# Altium footprint library VL53L1.PcbLib: 3 footprints
Each footprint in its own frame and in the unit in brackets; x right, y up, seen from the top. Pads: shape width x height; smd on the part's side, far side on the other; paste and mask are expansions set on the pad; w line width, h text height; cw(c..) or ccw(c..) is an arc to the next point about the centre after c.
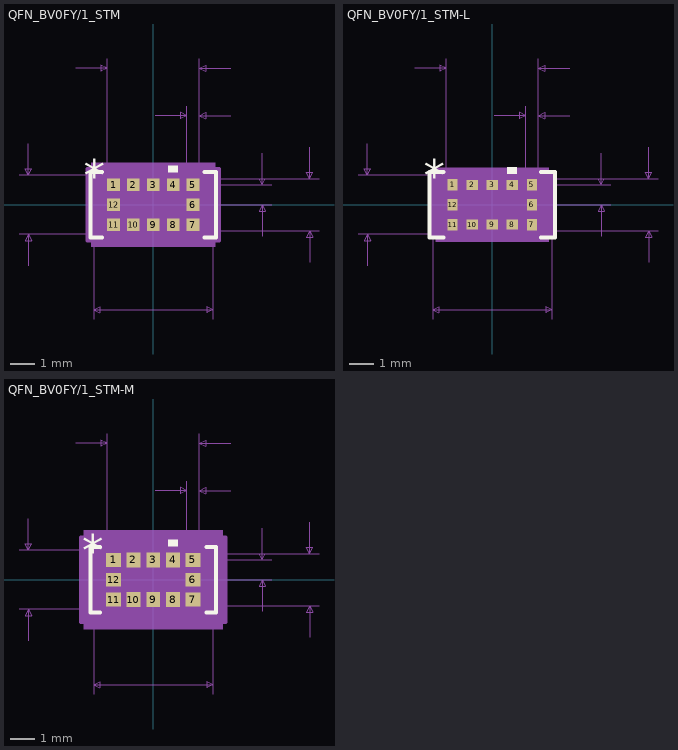
[diagram p0: the footprints below, top view; thin cyan lines are the x and y axes]

## QFN_BV0FY/1_STM [mil]
pads (12):
  rect 20x20 smd paste+0 mask+0: 1(-63,31.5) 2(-31.5,31.49) 3(0,31.49) 4(31.5,31.49) 5(63,31.5) 6(63,0) 7(63,-31.5) 8(31.5,-31.49) 9(0,-31.49) 10(-31.5,-31.49) 11(-63,-31.5) 12(-63,0)
Top Overlay:
  region: 39,51.49 24,51.49 24,61.49 39,61.49
  lines w6: -80.83,-52 -99.5,-52 -99.5,52 -80.83,52 ; 80.83,-52 99.5,-52 99.5,52 80.83,52
  text "*" at -110.5,22.24 h50
Mechanical 5:
  region: 98,-66.49 -98,-66.49 -98,66.49 98,66.49
Mechanical 7:
  lines w1: -213,-47 94.5,-47 ; -213,47 94.5,47 94.5,-181.49 ; -198,-97 -198,-47 ; -198,97 -198,47 ; -123,216.49 -73,216.49 ; -94.5,-181.49 -94.5,47 ; -73,31.5 -73,231.49 ; 3,141.49 53,141.49 ; 31.5,-41.49 263,-41.49 ; 31.5,41.49 263,41.49 ; 53,31.5 53,156.49 ; 63,0 188,0 ; 63,31.5 188,31.5 ; 73,156.49 73,31.5 73,231.49 ; 123,141.49 73,141.49 ; 123,216.49 73,216.49 ; 173,-50 173,0 ; 173,81.5 173,31.5 ; 248,-91.49 248,-41.49 ; 248,91.49 248,41.49 ; -198,-47 -203,-57 -193,-57 -198,-47 ; -198,47 -203,57 -193,57 -198,47 ; -94.5,-166.49 94.5,-166.49 ; -94.5,-166.49 -84.5,-161.49 -84.5,-171.49 -94.5,-166.49 ; -73,216.49 -83,221.49 -83,211.49 -73,216.49 ; 53,141.49 43,146.49 43,136.49 53,141.49 ; 73,141.49 83,146.49 83,136.49 73,141.49 ; 73,216.49 83,221.49 83,211.49 73,216.49 ; 94.5,-166.49 84.5,-161.49 84.5,-171.49 94.5,-166.49 ; 173,0 168,-10 178,-10 173,0 ; 173,31.5 168,41.5 178,41.5 173,31.5 ; 248,-41.49 243,-51.49 253,-51.49 248,-41.49 ; 248,41.49 243,51.49 253,51.49 248,41.49
  text "Default Padstyle: RX20Y20D0T" at -350,-351.49 h50
  text "Alt 1 Padstyle: OX60Y90D30P" at -337.5,-531.49 h50
  text "Alt 2 Padstyle: OX90Y60D30P" at -337.5,-591.49 h50
  text "0.031in/0.8mm" at 193,3.25 h25
  text "0.02in/0.508mm" at -24.5,161.49 h25
  text "0.146in/3.708mm" at -93.75,236.49 h25
  text "0.083in/2.108mm" at 268,-12.5 h25
  text "0.094in/2.388mm" at -405.5,-12.5 h25
  text "0.189in/4.801mm" at -93.75,-211.49 h25
Mechanical 13:
  lines w1: -94.5,-3 -44.5,47 ; -94.5,-47 94.5,-47 ; -94.5,-47 -94.5,47 ; -94.5,-47 -94.5,-47 ; -94.5,47 94.5,47 ; -94.5,47 -94.5,47 ; 94.5,-47 94.5,-47 ; 94.5,-47 94.5,47 ; 94.5,47 94.5,47 ; -94.5,-41.5 -94.5,-21.5 -73,-21.5 -73,-41.5 -94.5,-41.5 ; -94.5,-10 -94.5,10 -73,10 -73,-10 -94.5,-10 ; -94.5,21.5 -94.5,41.5 -73,41.5 -73,21.5 -94.5,21.5 ; -41.5,-47 -21.5,-47 -21.5,-41.49 -41.5,-41.49 -41.5,-47 ; -41.5,41.49 -21.5,41.49 -21.5,47 -41.5,47 -41.5,41.49 ; -10,-47 10,-47 10,-41.49 -10,-41.49 -10,-47 ; -10,41.49 10,41.49 10,47 -10,47 -10,41.49 ; 21.5,-47 41.5,-47 41.5,-41.49 21.5,-41.49 21.5,-47 ; 21.5,41.49 41.5,41.49 41.5,47 21.5,47 21.5,41.49 ; 73,-41.5 94.5,-41.5 94.5,-21.5 73,-21.5 73,-41.5 ; 73,-10 94.5,-10 94.5,10 73,10 73,-10 ; 73,21.5 94.5,21.5 94.5,41.5 73,41.5 73,21.5
  text "*" at -65.5,22.24 h50
Mechanical 15:
  region: -51.5,-57 -104.5,-57 -104.5,-51.5 -104.5,51.5 -104.5,57 -51.5,57 51.5,57 104.5,57 104.5,51.5 104.5,-51.5 104.5,-57 51.5,-57
  lines w6: -104.5,-51.5 -104.5,-57 -51.5,-57 ; -104.5,-51.5 -104.5,-51.5 ; -104.5,-51.5 -104.5,51.5 ; -104.5,51.5 -104.5,51.5 ; -104.5,51.5 -104.5,57 -51.5,57 ; -51.5,-57 51.5,-57 ; -51.5,-57 -51.5,-57 ; -51.5,57 -51.5,57 ; -51.5,57 51.5,57 ; 51.5,-57 104.5,-57 104.5,-51.5 ; 51.5,-57 51.5,-57 ; 51.5,57 51.5,57 ; 51.5,57 104.5,57 104.5,51.5 ; 104.5,-51.5 104.5,51.5 ; 104.5,-51.5 104.5,-51.5 ; 104.5,51.5 104.5,51.5
3D body: height 10, standoff 0, extent 0,0 10,10

## QFN_BV0FY/1_STM-L [mil]
pads (12):
  rect 16x18 smd paste+0 mask+0: 1(-63,31.5) 5(63,31.5) 6(63,0) 7(63,-31.5) 11(-63,-31.5) 12(-63,0)
  rect 18x16 smd paste+0 mask+0: 2(-31.5,31.49) 3(0,31.49) 4(31.5,31.49) 8(31.5,-31.49) 9(0,-31.49) 10(-31.5,-31.49)
Top Overlay:
  region: 39,49.49 24,49.49 24,59.49 39,59.49
  lines w6: -77.27,-52 -99.5,-52 -99.5,52 -77.27,52 ; 77.27,-52 99.5,-52 99.5,52 77.27,52
  text "*" at -108.5,22.24 h50
Mechanical 5:
  region: 90,-58.49 -90,-58.49 -90,58.49 90,58.49
Mechanical 7:
  lines w1: -213,-47 94.5,-47 ; -213,47 94.5,47 94.5,-181.49 ; -198,-97 -198,-47 ; -198,97 -198,47 ; -123,216.49 -73,216.49 ; -94.5,-181.49 -94.5,47 ; -73,31.5 -73,231.49 ; 3,141.49 53,141.49 ; 31.5,-41.49 263,-41.49 ; 31.5,41.49 263,41.49 ; 53,31.5 53,156.49 ; 63,0 188,0 ; 63,31.5 188,31.5 ; 73,156.49 73,31.5 73,231.49 ; 123,141.49 73,141.49 ; 123,216.49 73,216.49 ; 173,-50 173,0 ; 173,81.5 173,31.5 ; 248,-91.49 248,-41.49 ; 248,91.49 248,41.49 ; -198,-47 -203,-57 -193,-57 -198,-47 ; -198,47 -203,57 -193,57 -198,47 ; -94.5,-166.49 94.5,-166.49 ; -94.5,-166.49 -84.5,-161.49 -84.5,-171.49 -94.5,-166.49 ; -73,216.49 -83,221.49 -83,211.49 -73,216.49 ; 53,141.49 43,146.49 43,136.49 53,141.49 ; 73,141.49 83,146.49 83,136.49 73,141.49 ; 73,216.49 83,221.49 83,211.49 73,216.49 ; 94.5,-166.49 84.5,-161.49 84.5,-171.49 94.5,-166.49 ; 173,0 168,-10 178,-10 173,0 ; 173,31.5 168,41.5 178,41.5 173,31.5 ; 248,-41.49 243,-51.49 253,-51.49 248,-41.49 ; 248,41.49 243,51.49 253,51.49 248,41.49
  text "Default Padstyle: RX18Y16D0T" at -350,-349.49 h50
  text "Alt 1 Padstyle: OX60Y90D30P" at -337.5,-529.49 h50
  text "Alt 2 Padstyle: OX90Y60D30P" at -337.5,-589.49 h50
  text "0.031in/0.8mm" at 193,3.25 h25
  text "0.02in/0.508mm" at -24.5,161.49 h25
  text "0.146in/3.708mm" at -93.75,236.49 h25
  text "0.083in/2.108mm" at 268,-12.5 h25
  text "0.094in/2.388mm" at -405.5,-12.5 h25
  text "0.189in/4.801mm" at -93.75,-211.49 h25
Mechanical 13:
  lines w1: -94.5,-3 -44.5,47 ; -94.5,-47 94.5,-47 ; -94.5,-47 -94.5,47 ; -94.5,-47 -94.5,-47 ; -94.5,47 94.5,47 ; -94.5,47 -94.5,47 ; 94.5,-47 94.5,-47 ; 94.5,-47 94.5,47 ; 94.5,47 94.5,47 ; -94.5,-41.5 -94.5,-21.5 -73,-21.5 -73,-41.5 -94.5,-41.5 ; -94.5,-10 -94.5,10 -73,10 -73,-10 -94.5,-10 ; -94.5,21.5 -94.5,41.5 -73,41.5 -73,21.5 -94.5,21.5 ; -41.5,-47 -21.5,-47 -21.5,-41.49 -41.5,-41.49 -41.5,-47 ; -41.5,41.49 -21.5,41.49 -21.5,47 -41.5,47 -41.5,41.49 ; -10,-47 10,-47 10,-41.49 -10,-41.49 -10,-47 ; -10,41.49 10,41.49 10,47 -10,47 -10,41.49 ; 21.5,-47 41.5,-47 41.5,-41.49 21.5,-41.49 21.5,-47 ; 21.5,41.49 41.5,41.49 41.5,47 21.5,47 21.5,41.49 ; 73,-41.5 94.5,-41.5 94.5,-21.5 73,-21.5 73,-41.5 ; 73,-10 94.5,-10 94.5,10 73,10 73,-10 ; 73,21.5 94.5,21.5 94.5,41.5 73,41.5 73,21.5
  text "*" at -67.5,22.24 h50
Mechanical 15:
  region: -44.5,-51 -98.5,-51 -98.5,-44.5 -98.5,44.5 -98.5,51 -44.5,51 44.5,51 98.5,51 98.5,44.5 98.5,-44.5 98.5,-51 44.5,-51
  lines w6: -98.5,-44.5 -98.5,-51 -44.5,-51 ; -98.5,-44.5 -98.5,-44.5 ; -98.5,-44.5 -98.5,44.5 ; -98.5,44.5 -98.5,44.5 ; -98.5,44.5 -98.5,51 -44.5,51 ; -44.5,-51 44.5,-51 ; -44.5,-51 -44.5,-51 ; -44.5,51 -44.5,51 ; -44.5,51 44.5,51 ; 44.5,-51 98.5,-51 98.5,-44.5 ; 44.5,-51 44.5,-51 ; 44.5,51 44.5,51 ; 44.5,51 98.5,51 98.5,44.5 ; 98.5,-44.5 98.5,44.5 ; 98.5,-44.5 98.5,-44.5 ; 98.5,44.5 98.5,44.5
3D body: height 10, standoff 0, extent 0,0 10,10

## QFN_BV0FY/1_STM-M [mil]
pads (12):
  rect 24x22 smd paste+0 mask+0: 1(-63,31.5) 5(63,31.5) 6(63,0) 7(63,-31.5) 11(-63,-31.5) 12(-63,0)
  rect 22x24 smd paste+0 mask+0: 2(-31.5,31.49) 3(0,31.49) 4(31.5,31.49) 8(31.5,-31.49) 9(0,-31.49) 10(-31.5,-31.49)
Top Overlay:
  region: 39,53.49 24,53.49 24,63.49 39,63.49
  lines w6: -84.02,-52 -99.5,-52 -99.5,52 -84.02,52 ; 84.02,-52 99.5,-52 99.5,52 84.02,52
  text "*" at -112.5,22.24 h50
Mechanical 5:
  region: 110,-78.49 -110,-78.49 -110,78.49 110,78.49
Mechanical 7:
  lines w1: -213,-47 94.5,-47 ; -213,47 94.5,47 94.5,-181.49 ; -198,-97 -198,-47 ; -198,97 -198,47 ; -123,216.49 -73,216.49 ; -94.5,-181.49 -94.5,47 ; -73,31.5 -73,231.49 ; 3,141.49 53,141.49 ; 31.5,-41.49 263,-41.49 ; 31.5,41.49 263,41.49 ; 53,31.5 53,156.49 ; 63,0 188,0 ; 63,31.5 188,31.5 ; 73,156.49 73,31.5 73,231.49 ; 123,141.49 73,141.49 ; 123,216.49 73,216.49 ; 173,-50 173,0 ; 173,81.5 173,31.5 ; 248,-91.49 248,-41.49 ; 248,91.49 248,41.49 ; -198,-47 -203,-57 -193,-57 -198,-47 ; -198,47 -203,57 -193,57 -198,47 ; -94.5,-166.49 94.5,-166.49 ; -94.5,-166.49 -84.5,-161.49 -84.5,-171.49 -94.5,-166.49 ; -73,216.49 -83,221.49 -83,211.49 -73,216.49 ; 53,141.49 43,146.49 43,136.49 53,141.49 ; 73,141.49 83,146.49 83,136.49 73,141.49 ; 73,216.49 83,221.49 83,211.49 73,216.49 ; 94.5,-166.49 84.5,-161.49 84.5,-171.49 94.5,-166.49 ; 173,0 168,-10 178,-10 173,0 ; 173,31.5 168,41.5 178,41.5 173,31.5 ; 248,-41.49 243,-51.49 253,-51.49 248,-41.49 ; 248,41.49 243,51.49 253,51.49 248,41.49
  text "Default Padstyle: RX22Y24D0T" at -350,-353.49 h50
  text "Alt 1 Padstyle: OX60Y90D30P" at -337.5,-533.49 h50
  text "Alt 2 Padstyle: OX90Y60D30P" at -337.5,-593.49 h50
  text "0.031in/0.8mm" at 193,3.25 h25
  text "0.02in/0.508mm" at -24.5,161.49 h25
  text "0.146in/3.708mm" at -93.75,236.49 h25
  text "0.083in/2.108mm" at 268,-12.5 h25
  text "0.094in/2.388mm" at -405.5,-12.5 h25
  text "0.189in/4.801mm" at -93.75,-211.49 h25
Mechanical 13:
  lines w1: -94.5,-3 -44.5,47 ; -94.5,-47 94.5,-47 ; -94.5,-47 -94.5,47 ; -94.5,-47 -94.5,-47 ; -94.5,47 94.5,47 ; -94.5,47 -94.5,47 ; 94.5,-47 94.5,-47 ; 94.5,-47 94.5,47 ; 94.5,47 94.5,47 ; -94.5,-41.5 -94.5,-21.5 -73,-21.5 -73,-41.5 -94.5,-41.5 ; -94.5,-10 -94.5,10 -73,10 -73,-10 -94.5,-10 ; -94.5,21.5 -94.5,41.5 -73,41.5 -73,21.5 -94.5,21.5 ; -41.5,-47 -21.5,-47 -21.5,-41.49 -41.5,-41.49 -41.5,-47 ; -41.5,41.49 -21.5,41.49 -21.5,47 -41.5,47 -41.5,41.49 ; -10,-47 10,-47 10,-41.49 -10,-41.49 -10,-47 ; -10,41.49 10,41.49 10,47 -10,47 -10,41.49 ; 21.5,-47 41.5,-47 41.5,-41.49 21.5,-41.49 21.5,-47 ; 21.5,41.49 41.5,41.49 41.5,47 21.5,47 21.5,41.49 ; 73,-41.5 94.5,-41.5 94.5,-21.5 73,-21.5 73,-41.5 ; 73,-10 94.5,-10 94.5,10 73,10 73,-10 ; 73,21.5 94.5,21.5 94.5,41.5 73,41.5 73,21.5
  text "*" at -63.5,22.24 h50
Mechanical 15:
  region: -62.5,-67 -114.5,-67 -114.5,-62.5 -114.5,62.5 -114.5,67 -62.5,67 62.5,67 114.5,67 114.5,62.5 114.5,-62.5 114.5,-67 62.5,-67
  lines w6: -114.5,-62.5 -114.5,-67 -62.5,-67 ; -114.5,-62.5 -114.5,-62.5 ; -114.5,-62.5 -114.5,62.5 ; -114.5,62.5 -114.5,62.5 ; -114.5,62.5 -114.5,67 -62.5,67 ; -62.5,-67 62.5,-67 ; -62.5,-67 -62.5,-67 ; -62.5,67 -62.5,67 ; -62.5,67 62.5,67 ; 62.5,-67 114.5,-67 114.5,-62.5 ; 62.5,-67 62.5,-67 ; 62.5,67 62.5,67 ; 62.5,67 114.5,67 114.5,62.5 ; 114.5,-62.5 114.5,62.5 ; 114.5,-62.5 114.5,-62.5 ; 114.5,62.5 114.5,62.5
3D body: height 10, standoff 0, extent 0,0 10,10